# Altium schematic symbol library Power.SchLib: 10 symbols
Pins are listed as number, name and electrical type; pins without a type are passive.

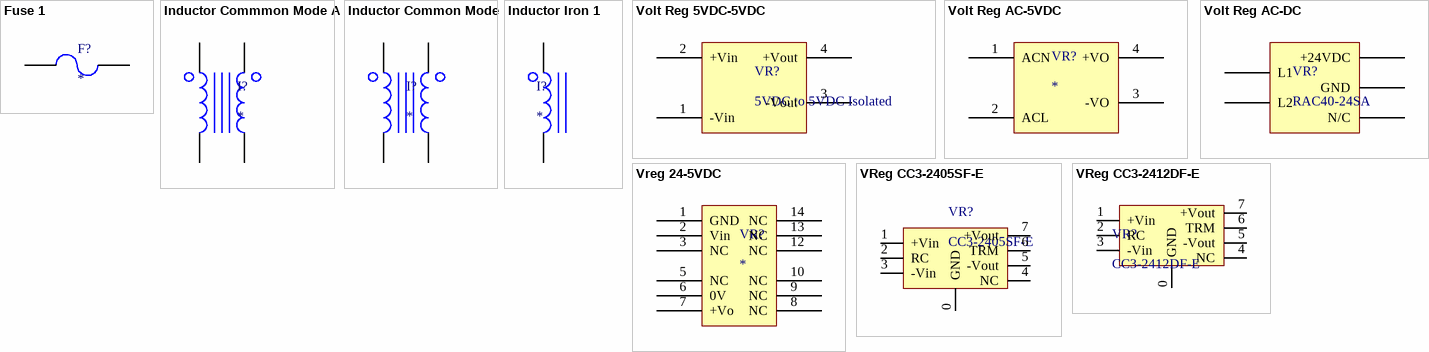
[diagram p0: symbols Fuse 1 to VReg CC3-2412DF-E]

## Fuse 1
designator F?
Supplier 1: *; Supplier Part Number 1: *
footprint 30-4628
footprint 0154001.DRT
pins: 1, 2

## Inductor Commmon Mode A
designator I?
Supplier 1: *; Supplier Part Number 1: *
footprint 744242101 (Common Mode Choke)
pins: 1, 2, 3, 4

## Inductor Common Mode
designator I?
Supplier Part Number 1: *; Supplier 1: *
footprint ELF-21C006A (Inductor Common Mode)
pins: 1, 2, 3, 4

## Inductor Iron 1
designator I?
Supplier Part Number 1: *; Supplier 1: *
footprint 5250-RC (Choke)
pins: 1, 2

## Volt Reg 5VDC-5VDC
designator VR?, comment 5VDC to 5VDC Isolated
Supplier 1: Digikey; Supplier Part Number 1: NML0505SC
footprint SIP-NML0505SC
pins: 1 -Vin, 2 +Vin, 3 -Vout, 4 +Vout

## Volt Reg AC-5VDC
designator VR?
Supplier Part Number 1: *; Supplier 1: *
footprint PWB-5001 (AC - 5VDC regulator)
pins: 1 ACN, 2 ACL, 3 -VO, 4 +VO

## Volt Reg AC-DC
designator VR?, comment RAC40-24SA
Supplier Part Number 1: *; Supplier 1: *
footprint PRN20W1-34x
footprint KMS40-24 (AC to 24VDC, 40W power supply)
pins: 1 L1, 2 L2, 3 N/C, 4 GND, 5 +24VDC

## Vreg 24-5VDC
designator VR?
Supplier Part Number 1: *; Supplier 1: *
footprint VIBLT
pins: 1 GND, 2 Vin, 3 NC, 5 NC, 6 0V, 7 +Vo, 8 NC, 9 NC, 10 NC, 12 NC, 13 NC, 14 NC

## VReg CC3-2405SF-E
designator VR?, comment CC3-2405SF-E
DC/DC 3W SNGL 24V 5V; Manufacturer: TDK-Lambda Americas Inc; Help: http://us.tdk-lambda.com/lp/ftp/specs/CC3-xF-E_spc_en.pdf; ManufacturerPN: CC3-2405SF-E; Supplier 1: Digikey; Supplier Part Number 1: 445-2475-ND
footprint CC3-2412DF-E
pins: 0 GND, 1 +Vin, 2 RC, 3 -Vin, 4 NC, 5 -Vout, 6 TRM, 7 +Vout

## VReg CC3-2412DF-E
designator VR?, comment CC3-2412DF-E
DC/DC 3W DUAL 24V +-12V; Manufacturer: TDK-Lambda Americas Inc; Help: http://us.tdk-lambda.com/lp/ftp/specs/CC3-xF-E_spc_en.pdf; ManufacturerPN: CC3-2412DF-E; Supplier 1: Digikey; Supplier Part Number 1: 445-2476-ND
footprint CC3-2412DF-E
pins: 0 GND, 1 +Vin, 2 RC, 3 -Vin, 4 NC, 5 -Vout, 6 TRM, 7 +Vout